# Altium schematic symbol library motors.SchLib: 1 symbol
Pins are listed as number, name and electrical type; pins without a type are passive.

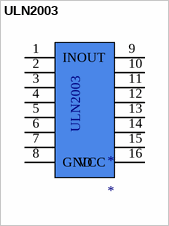
[diagram p0: symbol ULN2003]

## ULN2003
designator *
pins: 1 IN, 2, 3, 4, 5, 6, 7, 8 GND, 9 OUT, 10, 11, 12, 13, 14, 15, 16 VCC